# EAGLE library part TCD2210 (library NewSDR)
DICE II MINI IEEE-1394 Controller
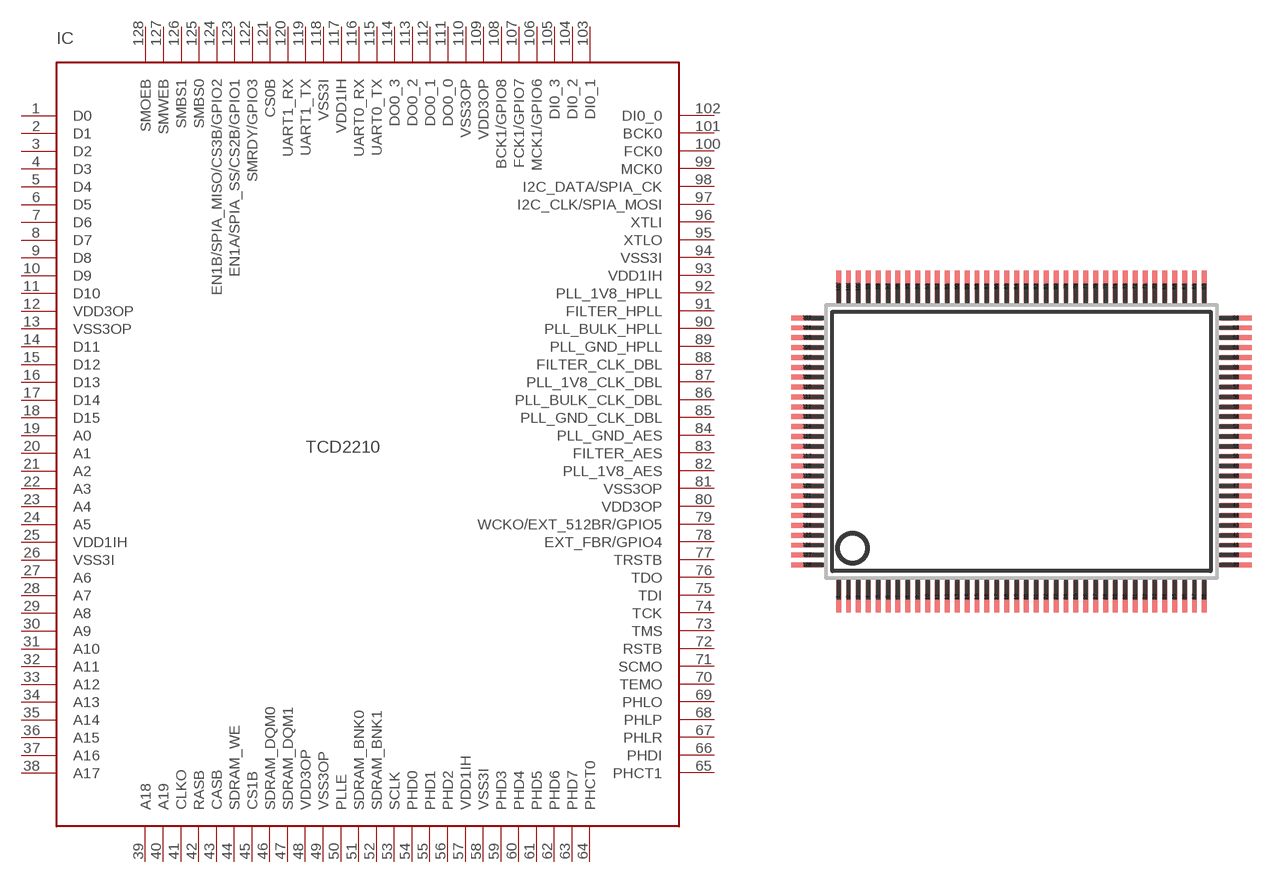
[diagram p38: symbol with the pads of PQFP128L; footprint PQFP128L]

Designator prefix IC

## TCD2210  [PQFP128L]
1  D0
2  D1
3  D2
4  D3
5  D4
6  D5
7  D6
8  D7
9  D8
10  D9
11  D10
12  VDD3OP  pwr
13  VSS3OP  pwr
14  D11
15  D12
16  D13
17  D14
18  D15
19  A0  out
20  A1  out
21  A2  out
22  A3  out
23  A4  out
24  A5  out
25  VDD1IH  pwr
26  VSS3I  pwr
27  A6  out
28  A7  out
29  A8  out
30  A9  out
31  A10  out
32  A11  out
33  A12  out
34  A13  out
35  A14  out
36  A15  out
37  A16  out
38  A17  out
39  A18  out
40  A19  out
41  CLKO  out
42  RASB  out
43  CASB  out
44  SDRAM_WE  out
45  CS1B  out
46  SDRAM_DQM0  out
47  SDRAM_DQM1  out
48  VDD3OP  pwr
49  VSS3OP  pwr
50  PLLE  in
51  SDRAM_BNK0  out
52  SDRAM_BNK1  out
53  SCLK  in
54  PHD0  out
55  PHD1  out
56  PHD2  out
57  VDD1IH  pwr
58  VSS3I  pwr
59  PHD3  out
60  PHD4  out
61  PHD5  out
62  PHD6  out
63  PHD7  out
64  PHCT0  out
65  PHCT1  out
66  PHDI  in
67  PHLR  out
68  PHLP  out
69  PHLO  in
70  TEMO  in
71  SCMO  in
72  RSTB  in
73  TMS  in
74  TCK  in
75  TDI  in
76  TDO  out
77  TRSTB  in
78  EXT_FBR/GPIO4
79  WCKO/EXT_512BR/GPIO5  out
80  VDD3OP  pwr
81  VSS3OP  pwr
82  PLL_1V8_AES  pwr
83  FILTER_AES  pas
84  PLL_GND_AES  pwr
85  PLL_GND_CLK_DBL  pwr
86  PLL_BULK_CLK_DBL  pwr
87  PLL_1V8_CLK_DBL  pwr
88  FILTER_CLK_DBL  pas
89  PLL_GND_HPLL  pwr
90  PLL_BULK_HPLL  pwr
91  FILTER_HPLL  pas
92  PLL_1V8_HPLL  pwr
93  VDD1IH  pwr
94  VSS3I  pwr
95  XTLO  out
96  XTLI  in
97  I2C_CLK/SPIA_MOSI
98  I2C_DATA/SPIA_CK
99  MCK0  out
100  FCK0  out
101  BCK0  out
102  DI0_0  in
103  DI0_1  in
104  DI0_2  in
105  DI0_3  in
106  MCK1/GPIO6
107  FCK1/GPIO7
108  BCK1/GPIO8
109  VDD3OP  pwr
110  VSS3OP  pwr
111  DO0_0  out
112  DO0_1  out
113  DO0_2  out
114  DO0_3  out
115  UART0_TX  out
116  UART0_RX  in
117  VDD1IH  pwr
118  VSS3I  pwr
119  UART1_TX  out
120  UART1_RX  in
121  CS0B  out
122  SMRDY/GPIO3
123  EN1A/SPIA_SS/CS2B/GPIO1
124  EN1B/SPIA_MISO/CS3B/GPIO2
125  SMBS0  out
126  SMBS1  out
127  SMWEB  out
128  SMOEB  out

## Footprint PQFP128L (pad centres in mm)
PQFP-128L ADVANCED DEMICONDUCTOR ENGENEERING. INC Package Outline 14x20x2.72 mm / 3.9mm Footprint Source PQFP-128.pdf
smd 0.25 x 1.6: 1 -9.25,-7.85; 2 -8.75,-7.85; 3 -8.25,-7.85; 4 -7.75,-7.85; 5 -7.25,-7.85; 6 -6.75,-7.85; 7 -6.25,-7.85; 8 -5.75,-7.85; 9 -5.25,-7.85; 10 -4.75,-7.85; 11 -4.25,-7.85; 12 -3.75,-7.85; 13 -3.25,-7.85; 14 -2.75,-7.85; 15 -2.25,-7.85; 16 -1.75,-7.85; 17 -1.25,-7.85; 18 -0.75,-7.85; 19 -0.25,-7.85; 20 0.25,-7.85; 21 0.75,-7.85; 22 1.25,-7.85; 23 1.75,-7.85; 24 2.25,-7.85; 25 2.75,-7.85; 26 3.25,-7.85; 27 3.75,-7.85; 28 4.25,-7.85; 29 4.75,-7.85; 30 5.25,-7.85; 31 5.75,-7.85; 32 6.25,-7.85; 33 6.75,-7.85; 34 7.25,-7.85; 35 7.75,-7.85; 36 8.25,-7.85; 37 8.75,-7.85; 38 9.25,-7.85; 65 9.25,7.85; 66 8.75,7.85; 67 8.25,7.85; 68 7.75,7.85; 69 7.25,7.85; 70 6.75,7.85; 71 6.25,7.85; 72 5.75,7.85; 73 5.25,7.85; 74 4.75,7.85; 75 4.25,7.85; 76 3.75,7.85; 77 3.25,7.85; 78 2.75,7.85; 79 2.25,7.85; 80 1.75,7.85; 81 1.25,7.85; 82 0.75,7.85; 83 0.25,7.85; 84 -0.25,7.85; 85 -0.75,7.85; 86 -1.25,7.85; 87 -1.75,7.85; 88 -2.25,7.85; 89 -2.75,7.85; 90 -3.25,7.85; 91 -3.75,7.85; 92 -4.25,7.85; 93 -4.75,7.85; 94 -5.25,7.85; 95 -5.75,7.85; 96 -6.25,7.85; 97 -6.75,7.85; 98 -7.25,7.85; 99 -7.75,7.85; 100 -8.25,7.85; 101 -8.75,7.85; 102 -9.25,7.85
smd 1.6 x 0.25: 39 10.85,-6.25; 40 10.85,-5.75; 41 10.85,-5.25; 42 10.85,-4.75; 43 10.85,-4.25; 44 10.85,-3.75; 45 10.85,-3.25; 46 10.85,-2.75; 47 10.85,-2.25; 48 10.85,-1.75; 49 10.85,-1.25; 50 10.85,-0.75; 51 10.85,-0.25; 52 10.85,0.25; 53 10.85,0.75; 54 10.85,1.25; 55 10.85,1.75; 56 10.85,2.25; 57 10.85,2.75; 58 10.85,3.25; 59 10.85,3.75; 60 10.85,4.25; 61 10.85,4.75; 62 10.85,5.25; 63 10.85,5.75; 64 10.85,6.25; 103 -10.85,6.25; 104 -10.85,5.75; 105 -10.85,5.25; 106 -10.85,4.75; 107 -10.85,4.25; 108 -10.85,3.75; 109 -10.85,3.25; 110 -10.85,2.75; 111 -10.85,2.25; 112 -10.85,1.75; 113 -10.85,1.25; 114 -10.85,0.75; 115 -10.85,0.25; 116 -10.85,-0.25; 117 -10.85,-0.75; 118 -10.85,-1.25; 119 -10.85,-1.75; 120 -10.85,-2.25; 121 -10.85,-2.75; 122 -10.85,-3.25; 123 -10.85,-3.75; 124 -10.85,-4.25; 125 -10.85,-4.75; 126 -10.85,-5.25; 127 -10.85,-5.75; 128 -10.85,-6.25